# Altium schematic symbol library Optoelectronics.SchLib: 8 symbols
Pins are listed as number, name and electrical type; pins without a type are passive.

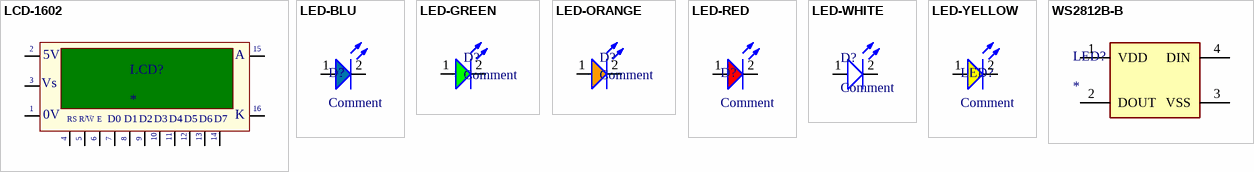
[diagram p0: symbols LCD-1602 to WS2812B-B]

## LCD-1602
designator LCD?
pins: 1 GND, 2 VDD, 3 VEE, 4 RS, 5 R/~{W}, 6 ~{EN}, 7 D0, 8 D1, 9 D2, 10 D3, 11 D4, 12 D5, 13 D6, 14 D7, 15 A, 16 K
text: 5V; Vs; |; 0V; R/W; E

## LED-BLU
designator D?, comment Comment
pins: 1, 2

## LED-GREEN
designator D?, comment Comment
pins: 1, 2

## LED-ORANGE
designator D?, comment Comment
pins: 1, 2

## LED-RED
designator D?, comment Comment
pins: 1, 2

## LED-WHITE
designator D?, comment Comment
pins: 1, 2

## LED-YELLOW
designator LED?, comment Comment
pins: 1, 2

## WS2812B-B
designator LED?
LED
pins: 1 VDD, 2 DOUT, 3 VSS, 4 DIN